# EAGLE library part RAK_WIRELESS_RAK813 (library lora-lorawan-modules)
RAK Wireless LoRaWAN module RAK813 Link: https://github.com/RAKWireless/RAK813-BreakBoard
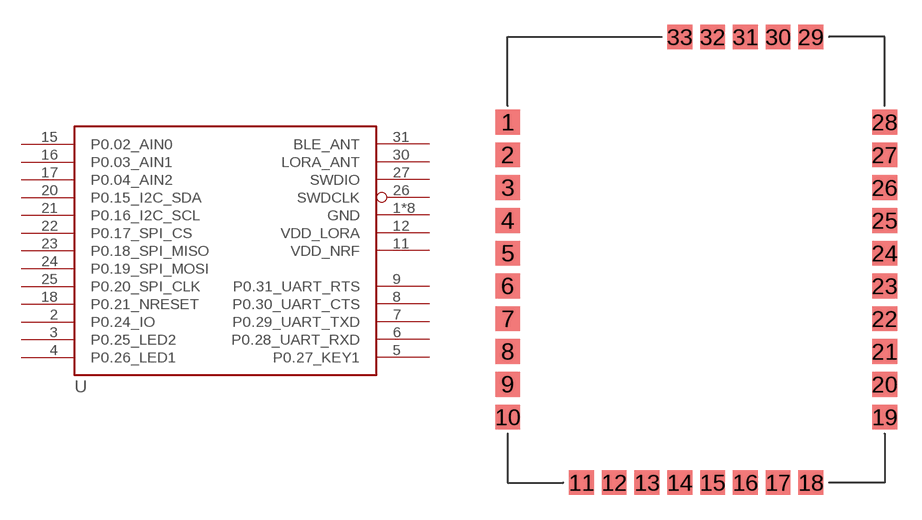
[diagram p9: symbol with the pads of RAK_WIRELESS_RAK813; footprint RAK_WIRELESS_RAK813]

Designator prefix -

## RAK_WIRELESS_RAK813  [RAK_WIRELESS_RAK813]
1  GND  pwr
2  P0.24_IO
3  P0.25_LED2
4  P0.26_LED1
5  P0.27_KEY1
6  P0.28_UART_RXD  in
7  P0.29_UART_TXD  out
8  P0.30_UART_CTS  out
9  P0.31_UART_RTS  in
10  GND  pwr
11  VDD_NRF  pwr
12  VDD_LORA  pwr
13  GND  pwr
14  GND  pwr
15  P0.02_AIN0
16  P0.03_AIN1
17  P0.04_AIN2
18  P0.21_NRESET  in
19  GND  pwr
20  P0.15_I2C_SDA
21  P0.16_I2C_SCL
22  P0.17_SPI_CS
23  P0.18_SPI_MISO
24  P0.19_SPI_MOSI
25  P0.20_SPI_CLK
26  SWDCLK
27  SWDIO
28  GND  pwr
29  GND  pwr
30  LORA_ANT
31  BLE_ANT
32  GND  pwr

## Footprint RAK_WIRELESS_RAK813 (pad centres in mm)
smd 1.51 x 1.51: 1 0,22; 2 0,20; 3 0,18; 4 0,16; 5 0,14; 6 0,12; 7 0,10; 8 0,8; 9 0,6; 10 0,4; 11 4.5,0; 12 6.5,0; 13 8.5,0; 14 10.5,0; 15 12.5,0; 16 14.5,0; 17 16.5,0; 18 18.5,0; 19 23,4; 20 23,6; 21 23,8; 22 23,10; 23 23,12; 24 23,14; 25 23,16; 26 23,18; 27 23,20; 28 23,22; 29 18.5,27.2; 30 16.5,27.2; 31 14.5,27.2; 32 12.5,27.2; 33 10.5,27.2